# EAGLE library part MCP9601 (library bschulz)
MCP9601 - Thermocouple to temperature converter Characteristics: VCC: 2.7~5.5V Resolution: 0.0625°C Number of Inputs: 1 Sample Rate (max): 200 Samples Per Second Operating Temperature: -40°C to 125°C Digikey: 150-MCP9601T-E/MXCT-ND <https://www.digikey.com/en/products/detail/microchip-technology/MCP9601T-E-MX/10444926>
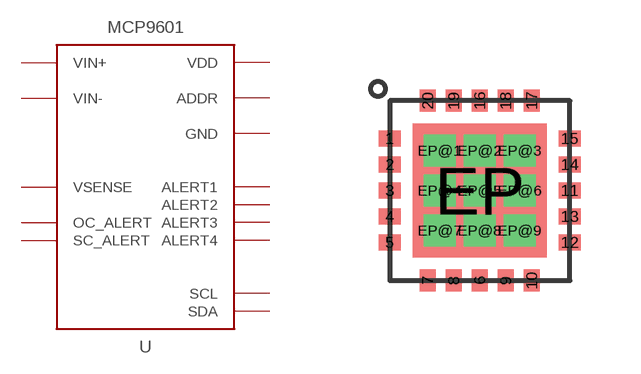
[diagram p188: symbol with the pads of QFN20_POWER; footprint QFN20_POWER]

Designator prefix U

## MCP9601 (DIGIKEY: 150-MCP9601T-E/MXCT-ND; MF: Microchip; MPN: MCP9601T-E/MX)  [QFN20_POWER]
1  GND  pwr
2  VIN+  in
3  GND  pwr
4  VIN-  in
5  GND  pwr
6  VSENSE  in
7  SC_ALERT  out
8  VDD  pwr
9  OC_ALERT  out
10  GND  pwr
11  ALERT1  out
12  ALERT2  out
13  GND  pwr
14  ALERT3  out
15  ALERT4  out
16  ADDR  in
17  GND  pwr
18  GND  pwr
19  SCL  in
20  SDA
EP  GND  pwr
EP@1  GND  pwr
EP@2  GND  pwr
EP@3  GND  pwr
EP@4  GND  pwr
EP@5  GND  pwr
EP@6  GND  pwr
EP@7  GND  pwr
EP@8  GND  pwr
EP@9  GND  pwr

## Footprint QFN20_POWER (pad centres in mm)
QFN, 20 lead, 5x5mm with exposed power pad Datasheet <https://ww1.microchip.com/downloads/en/DeviceDoc/MCP960X-L0X-RL0X-Data-Sheet-20005426F.pdf>
smd 0.55 x 0.4: 1 -2.25,1.3; 2 -2.25,0.65; 3 -2.25,0; 4 -2.25,-0.65; 5 -2.25,-1.3; 11 2.25,0; 12 2.25,-1.3; 13 2.25,-0.65; 14 2.25,0.65; 15 2.25,1.3
smd 0.4 x 0.55: 6 0,-2.25; 7 -1.3,-2.25; 8 -0.65,-2.25; 9 0.65,-2.25; 10 1.3,-2.25; 16 0,2.25; 17 1.3,2.25; 18 0.65,2.25; 19 -0.65,2.25; 20 -1.3,2.25
smd 3.35 x 3.35: EP 0,0
drill 0.3 square: EP@1 -1,1; EP@2 0,1; EP@3 1,1; EP@4 -1,0; EP@5 0,0; EP@6 1,0; EP@7 -1,-1; EP@8 0,-1; EP@9 1,-1